# Altium integrated library 光电隔离器.IntLib: 23 symbols
Pins are listed as number, name and electrical type; pins without a type are passive.

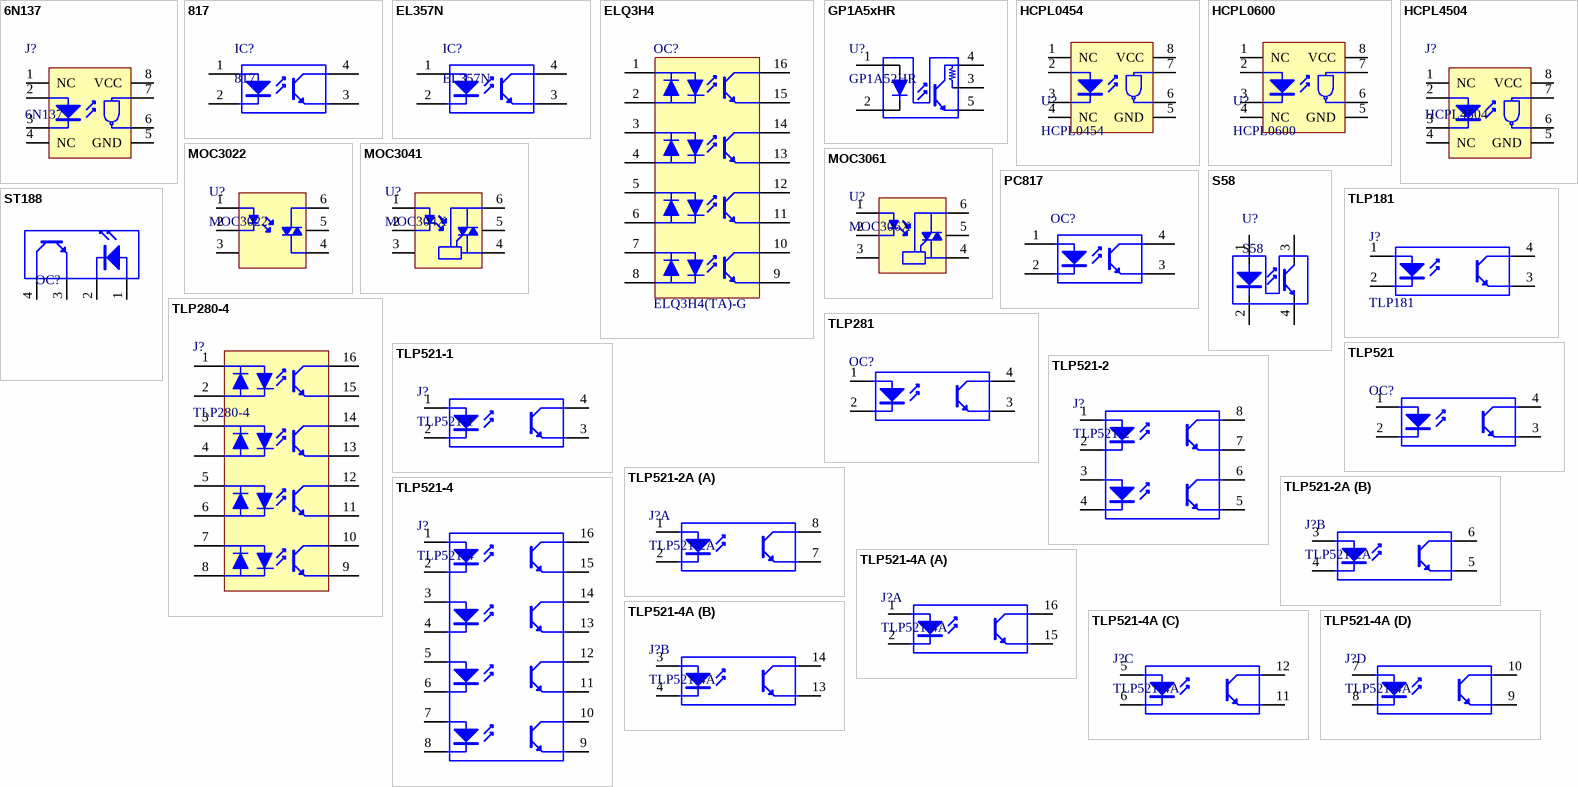
[diagram p0: symbols 6N137 to TLP521-4A]

## 6N137
designator J?
10M高速集成光耦; 版权归属: 源创客; BOM名称: 10M高速集成光耦; 学习资源: www.ooocke.com
footprint DIP8-300 (9.4*7.6*3.8(长宽高）)
footprint DIP8-300_MH (带底座 9.4*7.6*3.8(长宽高）)
footprint SOP8_L (5*6*1.8mm（长宽高）)
footprint SOP8_M (5*6*1.8mm（长宽高）)
footprint SOP8_N (5*6*1.8mm（长宽高）)
footprint SOP8-W2.54_M (6.5*9.66*3.5mm（长宽高）)
pins: 1 NC "Anode", 2 LED+ "Cathode", 3 LED- "Cathode", 4 NC "Cathode", 5 GND "Collector", 6 Vo "Emitter", 7 Ve "Emitter", 8 VCC "Emitter"

## 817
designator IC?
线性光耦; 版权归属: 源创客; BOM名称: 线性光耦; 学习资源: www.ooocke.com
footprint DIP4-300 (4.6*7.6*3.8(长宽高）)
pins: 1 A "Anode", 2 K "Cathode", 3 E "Emitter", 4 C "Collector"

## EL357N
designator IC?
线性光耦; 版权归属: 源创客; BOM名称: 线性光耦; 学习资源: www.ooocke.com
footprint DIP4-300 (4.6*7.6*3.8(长宽高）)
footprint SOP4_N (4.4*6.8*2.1mm（长宽高）)
footprint SOP4_L (4.4*6.8*2.1mm（长宽高）)
footprint SOP4_M (4.4*6.8*2.1mm（长宽高）)
pins: 1 A "Anode", 2 K "Cathode", 3 E "Emitter", 4 C "Collector"

## ELQ3H4
designator OC?, comment ELQ3H4(TA)-G
16 PIN ULTRA SMALL SSOP AC INPUT / PHOTOTRANSISTOR PHOTOCOUPLER / ELQ3H4 Series
footprint SOP16N_L (10.3*7*1.8mm（长宽高）)
footprint SOP16N_M (10.3*7*1.8mm（长宽高）)
footprint SOP16N_N (10.3*7*1.8mm（长宽高）)
pins: 1 A "Anode", 2 K "Cathode", 3 E "Emitter", 4 C "Collector", 5, 6, 7, 8, 9, 10, 11, 12, 13, 14, 15, 16

## GP1A5xHR
designator U?, comment GP1A52HR
槽间光电开关; 版权归属: 源创客; BOM名称: 槽间光电开关; 学习资源: www.ooocke.com
footprint GP1A52HR (长: 12.5mm,宽:5mm,高:10mm,槽宽:3mm)
footprint GP1A53HR (长: 14mm,宽:5.2mm,高:10mm,槽宽:5mm)
pins: 1 A, 2 K, 3, 4, 5

## HCPL0454
designator U?
高速光耦
footprint SOP8_N (5*6*1.8mm（长宽高）)
pins: 1 NC "Anode", 2 LED+ "Cathode", 3 LED- "Cathode", 4 NC "Cathode", 5 GND "Collector", 6 Vo "Emitter", 7 Ve "Emitter", 8 VCC "Emitter"

## HCPL0600
designator U?
高速光耦
footprint SOP8_L(3.175) (5*6*1.8mm（长宽高）)
footprint SOP8_M(3.175) (5*6*1.8mm（长宽高）)
footprint SOP8_N(3.175) (5*6*1.8mm（长宽高）)
pins: 1 NC "Anode", 2 LED+ "Cathode", 3 LED- "Cathode", 4 NC "Cathode", 5 GND "Collector", 6 Vo "Emitter", 7 Ve "Emitter", 8 VCC "Emitter"

## HCPL4504
designator J?
高速集成光耦; BOM名称: 10M高速集成光耦; 版权归属: 源创客; 学习资源: www.ooocke.com
footprint DIP8-300 (9.4*7.6*3.8(长宽高）)
footprint DIP8-300_MH (带底座 9.4*7.6*3.8(长宽高）)
footprint SOP8-W2.54_M (6.5*9.66*3.5mm（长宽高）)
pins: 1 NC "Anode", 2 LED+ "Cathode", 3 LED- "Cathode", 4 NC "Cathode", 5 GND "Collector", 6 Vo "Emitter", 7 Ve "Emitter", 8 VCC "Emitter"

## MOC3022
designator U?
光可控硅; 版权归属: 源创客; BOM名称: 光可控硅; 学习资源: www.ooocke.com
footprint DIP6-300 (6.8*7.6*3.8(长宽高）)
pins: 1 +, 2 -, 3 NC, 4, 5, 6

## MOC3041
designator U?, comment MOC304X
零点触发光可控硅; BOM名称: 光可控硅; 版权归属: 源创客; 学习资源: www.ooocke.com
footprint DIP6-300 (6.8*7.6*3.8(长宽高）)
footprint SOP6-W2.54 (SOP, 6-Leads, Body 8.51x6.35mm, Pitch 2.54mm, IPC Medium Density)
pins: 1 +, 2 -, 3 NC, 4, 5, 6

## MOC3061
designator U?, comment MOC306X
零点触发光可控硅; BOM名称: 光可控硅
footprint DIP6-300 (6.8*7.6*3.8(长宽高）)
footprint SOP6-W2.54 (SOP, 6-Leads, Body 8.51x6.35mm, Pitch 2.54mm, IPC Medium Density)
pins: 1 +, 2 -, 3 NC, 4, 5, 6

## PC817
designator OC?
线性光耦
footprint SMD_PC817
footprint DIP_PC817
pins: 1 A "Anode", 2 K "Cathode", 3 E "Emitter", 4 C "Collector"

## S58
designator U?
槽间光耦; 版权归属: 源创客; BOM名称: 槽间光耦; 学习资源: www.ooocke.com
footprint S58 (对射型光耦)
pins: 1 A, 2 K, 3 C, 4 E

## ST188
designator OC?
反射型光耦
footprint ST188 (反射型光耦)
pins: 1 A "Anode", 2 K "Cathode", 3 E "Emitter", 4 C "Collector"

## TLP181
designator J?
光耦; 版权归属: 源创客; BOM名称: 光耦; 学习资源: www.ooocke.com
footprint SOP4_N (4.4*6.8*2.1mm（长宽高）)
footprint SOP4_L (4.4*6.8*2.1mm（长宽高）)
footprint SOP4_M (4.4*6.8*2.1mm（长宽高）)
footprint DIP4-300 (Footprint not found)
pins: 1 A "Anode", 2 K "Cathode", 3 E "Emitter", 4 C "Collector"

## TLP280-4
designator J?
4组光耦; 版权归属: 源创客; BOM名称: 4组光耦; 学习资源: www.ooocke.com
footprint SOP16N_N (10.3*7*1.8mm（长宽高）)
footprint SOP16N_L (10.3*7*1.8mm（长宽高）)
footprint SOP16N_M (10.3*7*1.8mm（长宽高）)
pins: 1 A "Anode", 2 K "Cathode", 3 E "Emitter", 4 C "Collector", 5, 6, 7, 8, 9, 10, 11, 12, 13, 14, 15, 16

## TLP281
designator OC?
光耦
pins: 1 A "Anode", 2 K "Cathode", 3 E "Emitter", 4 C "Collector"

## TLP521
designator OC?
开关光耦
footprint DIP_TLP521
pins: 1 A "Anode", 2 K "Cathode", 3 E "Emitter", 4 C "Collector"

## TLP521-1
designator J?
1路开关光耦; 版权归属: 源创客; BOM名称: 1路开关光耦; 学习资源: www.ooocke.com
footprint DIP4-300 (4.6*7.6*3.8(长宽高）)
footprint SOP4-W2.54_N (6.5*4.58*3.5mm（长宽高）)
footprint SOP4-W2.54_L (6.5*4.58*3.5mm（长宽高）)
footprint SOP4-W2.54_M (6.5*4.58*3.5mm（长宽高）)
pins: 1 A "Anode", 2 K "Cathode", 3 E "Emitter", 4 C "Collector"

## TLP521-2
designator J?
2路开关光耦; 版权归属: 源创客; BOM名称: 2路开关光耦; 学习资源: www.ooocke.com
footprint DIP8-300 (9.4*7.6*3.8(长宽高）)
footprint SOP8-W2.54_N (6.5*9.66*3.5mm（长宽高）)
footprint SOP8-W2.54_L (6.5*9.66*3.5mm（长宽高）)
footprint SOP8-W2.54_M (6.5*9.66*3.5mm（长宽高）)
pins: 1 1A "Anode", 2 1K "Cathode", 3 2A "Anode", 4 2K "Cathode", 5 2E "Emitter", 6 2C "Collector", 7 1E "Emitter", 8 1C "Collector"

## TLP521-2A
designator J?
2路开关光耦; 版权归属: 源创客; BOM名称: 2路开关光耦; 学习资源: www.ooocke.com
footprint DIP8-300 (9.4*7.6*3.8(长宽高）)
footprint SOP8-W2.54_N (6.5*9.66*3.5mm（长宽高）)
footprint SOP8-W2.54_L (6.5*9.66*3.5mm（长宽高）)
footprint SOP8-W2.54_M (6.5*9.66*3.5mm（长宽高）)
part A pins: 1 1A "Anode", 2 1K "Cathode", 7 1E "Emitter", 8 1C "Collector"
part B pins: 3 2A "Anode", 4 2K "Cathode", 5 2E "Emitter", 6 2C "Collector"

## TLP521-4
designator J?
4路开关光耦; 版权归属: 源创客; BOM名称: 4路开关光耦; 学习资源: www.ooocke.com
footprint DIP16-300 (19.3*7.6*3.8(长宽高）)
footprint SOP16-W2.54_N (6.5*19.82*3.5mm（长宽高）)
footprint SOP16-W2.54_L (6.5*19.82*3.5mm（长宽高）)
footprint SOP16-W2.54_M (6.5*19.82*3.5mm（长宽高）)
pins: 1 1A "Anode", 2 1K "Cathode", 3 2A "Anode", 4 2K "Cathode", 5 3A "Anode", 6 3K "Cathode", 7 4A "Anode", 8 4K "Cathode", 9 4E "Emitter", 10 4C "Collector", 11 3E "Emitter", 12 3C "Collector", 13 2E "Emitter", 14 2C "Collector", 15 1E "Emitter", 16 1C "Collector"

## TLP521-4A
designator J?
4路开关光耦; 版权归属: 源创客; BOM名称: 4路开关光耦; 学习资源: www.ooocke.com
footprint DIP16-300 (19.3*7.6*3.8(长宽高）)
footprint SOP16-W2.54_N (6.5*19.82*3.5mm（长宽高）)
footprint SOP16-W2.54_L (6.5*19.82*3.5mm（长宽高）)
footprint SOP16-W2.54_M (6.5*19.82*3.5mm（长宽高）)
part A pins: 1 1A "Anode", 2 1K "Cathode", 15 1E "Emitter", 16 1C "Collector"
part B pins: 3 2A "Anode", 4 2K "Cathode", 13 2E "Emitter", 14 2C "Collector"
part C pins: 5 3A "Anode", 6 3K "Cathode", 11 3E "Emitter", 12 3C "Collector"
part D pins: 7 4A "Anode", 8 4K "Cathode", 9 4E "Emitter", 10 4C "Collector"